# Altium footprint library LT3120JV&hash_PBF.PcbLib: 3 footprints
Each footprint in its own frame and in the unit in brackets; x right, y up, seen from the top. Pads: shape width x height; smd on the part's side, far side on the other; paste and mask are expansions set on the pad; w line width, h text height; cw(c..) or ccw(c..) is an arc to the next point about the centre after c.
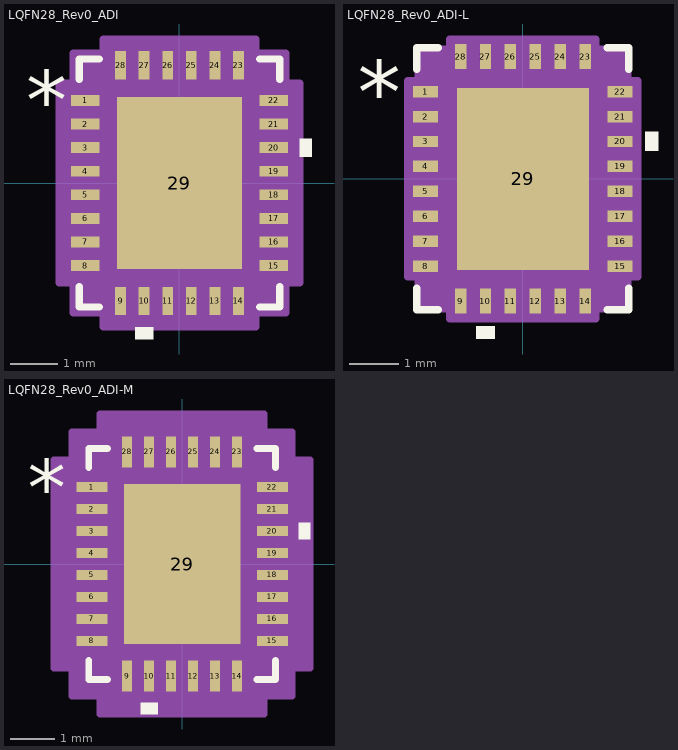
[diagram p0: the footprints below, top view; thin cyan lines are the x and y axes]

## LQFN28_Rev0_ADI [mm]
pads (29):
  rect 0.6x0.23 smd paste+0 mask+0: 1(-2,1.75) 2(-2,1.25) 3(-2,0.75) 4(-2,0.25) 5(-2,-0.25) 6(-2,-0.75) 7(-2,-1.25) 8(-2,-1.75) 15(2,-1.75) 16(2,-1.25) 17(2,-0.75) 18(2,-0.25) 19(2,0.25) 20(2,0.75) 21(2,1.25) 22(2,1.75)
  rect 0.23x0.6 smd paste+0 mask+0: 9(-1.25,-2.5) 10(-0.75,-2.5) 11(-0.25,-2.5) 12(0.25,-2.5) 13(0.75,-2.5) 14(1.25,-2.5) 23(1.25,2.5) 24(0.75,2.5) 25(0.25,2.5) 26(-0.25,2.5) 27(-0.75,2.5) 28(-1.25,2.5)
  rect 2.65x3.65 smd paste+0 mask+0: 29(0,0)
Top Overlay:
  region: -0.56,-3.054 -0.941,-3.054 -0.941,-3.308 -0.56,-3.308
  region: 2.554,0.941 2.808,0.941 2.808,0.56 2.554,0.56
  lines w0.152: -2.127,-2.198 -2.127,-2.627 -1.698,-2.627 ; -2.127,2.198 -2.127,2.627 -1.698,2.627 ; 1.698,-2.627 2.127,-2.627 2.127,-2.198 ; 1.698,2.627 2.127,2.627 2.127,2.198
  text "*" at -3.253,1.115 h1.27
Mechanical 13:
  lines w0.025: -2,1.23 -0.73,2.5 ; -2,-1.89 -2,-1.61 ; -2,-1.89 -2,-1.61 ; -2,-1.89 -2,-1.89 ; -2,-1.61 -2,-1.61 ; -2,-1.39 -2,-1.11 ; -2,-1.39 -2,-1.11 ; -2,-1.39 -2,-1.39 ; -2,-1.11 -2,-1.11 ; -2,-0.89 -2,-0.61 ; -2,-0.89 -2,-0.61 ; -2,-0.89 -2,-0.89 ; -2,-0.61 -2,-0.61 ; -2,-0.39 -2,-0.11 ; -2,-0.39 -2,-0.11 ; -2,-0.39 -2,-0.39 ; -2,-0.11 -2,-0.11 ; -2,0.11 -2,0.39 ; -2,0.11 -2,0.39 ; -2,0.11 -2,0.11 ; -2,0.39 -2,0.39 ; -2,0.61 -2,0.89 ; -2,0.61 -2,0.89 ; -2,0.61 -2,0.61 ; -2,0.89 -2,0.89 ; -2,1.11 -2,1.39 ; -2,1.11 -2,1.39 ; -2,1.11 -2,1.11 ; -2,1.39 -2,1.39 ; -2,1.61 -2,1.89 ; -2,1.61 -2,1.89 ; -2,1.61 -2,1.61 ; -2,1.89 -2,1.89 ; -1.39,-2.5 -1.11,-2.5 ; -1.39,-2.5 -1.39,-2.5 ; -1.39,-2.5 -1.11,-2.5 ; -1.39,2.5 -1.11,2.5 ; -1.39,2.5 -1.11,2.5 ; -1.39,2.5 -1.39,2.5 ; -1.11,-2.5 -1.11,-2.5 ; -1.11,2.5 -1.11,2.5 ; -0.89,-2.5 -0.61,-2.5 ; -0.89,-2.5 -0.89,-2.5 ; -0.89,-2.5 -0.61,-2.5 ; -0.89,2.5 -0.61,2.5 ; -0.89,2.5 -0.61,2.5 ; -0.89,2.5 -0.89,2.5 ; -0.61,-2.5 -0.61,-2.5 ; -0.61,2.5 -0.61,2.5 ; -0.39,-2.5 -0.11,-2.5 ; -0.39,-2.5 -0.39,-2.5 ; -0.39,-2.5 -0.11,-2.5 ; -0.39,2.5 -0.11,2.5 ; -0.39,2.5 -0.11,2.5 ; -0.39,2.5 -0.39,2.5 ; -0.11,-2.5 -0.11,-2.5 ; -0.11,2.5 -0.11,2.5 ; 0.11,-2.5 0.39,-2.5 ; 0.11,-2.5 0.11,-2.5 ; 0.11,-2.5 0.39,-2.5 ; 0.11,2.5 0.39,2.5 ; 0.11,2.5 0.39,2.5 ; 0.11,2.5 0.11,2.5 ; 0.39,-2.5 0.39,-2.5 ; 0.39,2.5 0.39,2.5 ; 0.61,-2.5 0.89,-2.5 ; 0.61,-2.5 0.61,-2.5 ; 0.61,-2.5 0.89,-2.5 ; 0.61,2.5 0.89,2.5 ; 0.61,2.5 0.89,2.5 ; 0.61,2.5 0.61,2.5 ; 0.89,-2.5 0.89,-2.5 ; 0.89,2.5 0.89,2.5 ; 1.11,-2.5 1.39,-2.5 ; 1.11,-2.5 1.11,-2.5 ; 1.11,-2.5 1.39,-2.5 ; 1.11,2.5 1.39,2.5 ; 1.11,2.5 1.39,2.5 ; 1.11,2.5 1.11,2.5 ; 1.39,-2.5 1.39,-2.5 ; 1.39,2.5 1.39,2.5 ; 2,-1.89 2,-1.61 ; 2,-1.89 2,-1.89 ; 2,-1.89 2,-1.61 ; 2,-1.61 2,-1.61 ; 2,-1.39 2,-1.11 ; 2,-1.39 2,-1.39 ; 2,-1.39 2,-1.11 ; 2,-1.11 2,-1.11 ; 2,-0.89 2,-0.61 ; 2,-0.89 2,-0.89 ; 2,-0.89 2,-0.61 ; 2,-0.61 2,-0.61 ; 2,-0.39 2,-0.11 ; 2,-0.39 2,-0.39 ; 2,-0.39 2,-0.11 ; 2,-0.11 2,-0.11 ; 2,0.11 2,0.39 ; 2,0.11 2,0.11 ; 2,0.11 2,0.39 ; 2,0.39 2,0.39 ; 2,0.61 2,0.89 ; 2,0.61 2,0.61 ; 2,0.61 2,0.89 ; 2,0.89 2,0.89 ; 2,1.11 2,1.39 ; 2,1.11 2,1.11 ; 2,1.11 2,1.39 ; 2,1.39 2,1.39 ; 2,1.61 2,1.89 ; 2,1.61 2,1.61 ; 2,1.61 2,1.89 ; 2,1.89 2,1.89 ; -2,-2.5 2,-2.5 2,2.5 -2,2.5 -2,-2.5
  text "*" at -1.382,1.115 h1.27
Mechanical 15:
  region: -1.619,-2.754 -2.254,-2.754 -2.254,-2.119 -2.554,-2.119 -2.554,2.119 -2.254,2.119 -2.254,2.754 -1.619,2.754 -1.619,3.054 1.619,3.054 1.619,2.754 2.254,2.754 2.254,2.119 2.554,2.119 2.554,-2.119 2.254,-2.119 2.254,-2.754 1.619,-2.754 1.619,-3.054 -1.619,-3.054
  lines w0.152: -2.554,-2.119 -2.254,-2.119 -2.254,-2.754 -1.619,-2.754 -1.619,-3.054 1.619,-3.054 1.619,-2.754 2.254,-2.754 2.254,-2.119 2.554,-2.119 2.554,2.119 2.254,2.119 2.254,2.754 1.619,2.754 1.619,3.054 -1.619,3.054 -1.619,2.754 -2.254,2.754 -2.254,2.119 -2.554,2.119 -2.554,-2.119
3D body "LQFN28_Rev0_ADI.step": height 0.83, standoff 0, extent -2,-2.5 2,2.5

## LQFN28_Rev0_ADI-L [mm]
pads (29):
  rect 0.503x0.229 smd paste+0 mask+0: 1(-1.952,1.75) 2(-1.952,1.25) 3(-1.952,0.75) 4(-1.952,0.25) 5(-1.952,-0.25) 6(-1.952,-0.75) 7(-1.952,-1.25) 8(-1.952,-1.75) 15(1.952,-1.75) 16(1.952,-1.25) 17(1.952,-0.75) 18(1.952,-0.25) 19(1.952,0.25) 20(1.952,0.75) 21(1.952,1.25) 22(1.952,1.75)
  rect 0.229x0.503 smd paste+0 mask+0: 9(-1.25,-2.452) 10(-0.75,-2.452) 11(-0.25,-2.452) 12(0.25,-2.452) 13(0.75,-2.452) 14(1.25,-2.452) 23(1.25,2.452) 24(0.75,2.452) 25(0.25,2.452) 26(-0.25,2.452) 27(-0.75,2.452) 28(-1.25,2.452)
  rect 2.65x3.65 smd paste+0 mask+0: 29(0,0)
Top Overlay:
  region: -0.56,-2.957 -0.941,-2.957 -0.941,-3.211 -0.56,-3.211
  region: 2.457,0.941 2.711,0.941 2.711,0.56 2.457,0.56
  lines w0.152: -2.127,-2.197 -2.127,-2.627 -1.697,-2.627 ; -2.127,2.197 -2.127,2.627 -1.697,2.627 ; 1.697,-2.627 2.127,-2.627 2.127,-2.197 ; 1.697,2.627 2.127,2.627 2.127,2.197
  text "*" at -3.308,1.115 h1.27
Mechanical 13:
  lines w0.025: -2,1.23 -0.73,2.5 ; -2,-1.89 -2,-1.61 ; -2,-1.89 -2,-1.61 ; -2,-1.89 -2,-1.89 ; -2,-1.61 -2,-1.61 ; -2,-1.39 -2,-1.11 ; -2,-1.39 -2,-1.11 ; -2,-1.39 -2,-1.39 ; -2,-1.11 -2,-1.11 ; -2,-0.89 -2,-0.61 ; -2,-0.89 -2,-0.61 ; -2,-0.89 -2,-0.89 ; -2,-0.61 -2,-0.61 ; -2,-0.39 -2,-0.11 ; -2,-0.39 -2,-0.11 ; -2,-0.39 -2,-0.39 ; -2,-0.11 -2,-0.11 ; -2,0.11 -2,0.39 ; -2,0.11 -2,0.39 ; -2,0.11 -2,0.11 ; -2,0.39 -2,0.39 ; -2,0.61 -2,0.89 ; -2,0.61 -2,0.89 ; -2,0.61 -2,0.61 ; -2,0.89 -2,0.89 ; -2,1.11 -2,1.39 ; -2,1.11 -2,1.39 ; -2,1.11 -2,1.11 ; -2,1.39 -2,1.39 ; -2,1.61 -2,1.89 ; -2,1.61 -2,1.89 ; -2,1.61 -2,1.61 ; -2,1.89 -2,1.89 ; -1.39,-2.5 -1.11,-2.5 ; -1.39,-2.5 -1.39,-2.5 ; -1.39,-2.5 -1.11,-2.5 ; -1.39,2.5 -1.11,2.5 ; -1.39,2.5 -1.11,2.5 ; -1.39,2.5 -1.39,2.5 ; -1.11,-2.5 -1.11,-2.5 ; -1.11,2.5 -1.11,2.5 ; -0.89,-2.5 -0.61,-2.5 ; -0.89,-2.5 -0.89,-2.5 ; -0.89,-2.5 -0.61,-2.5 ; -0.89,2.5 -0.61,2.5 ; -0.89,2.5 -0.61,2.5 ; -0.89,2.5 -0.89,2.5 ; -0.61,-2.5 -0.61,-2.5 ; -0.61,2.5 -0.61,2.5 ; -0.39,-2.5 -0.11,-2.5 ; -0.39,-2.5 -0.39,-2.5 ; -0.39,-2.5 -0.11,-2.5 ; -0.39,2.5 -0.11,2.5 ; -0.39,2.5 -0.11,2.5 ; -0.39,2.5 -0.39,2.5 ; -0.11,-2.5 -0.11,-2.5 ; -0.11,2.5 -0.11,2.5 ; 0.11,-2.5 0.39,-2.5 ; 0.11,-2.5 0.11,-2.5 ; 0.11,-2.5 0.39,-2.5 ; 0.11,2.5 0.39,2.5 ; 0.11,2.5 0.39,2.5 ; 0.11,2.5 0.11,2.5 ; 0.39,-2.5 0.39,-2.5 ; 0.39,2.5 0.39,2.5 ; 0.61,-2.5 0.89,-2.5 ; 0.61,-2.5 0.61,-2.5 ; 0.61,-2.5 0.89,-2.5 ; 0.61,2.5 0.89,2.5 ; 0.61,2.5 0.89,2.5 ; 0.61,2.5 0.61,2.5 ; 0.89,-2.5 0.89,-2.5 ; 0.89,2.5 0.89,2.5 ; 1.11,-2.5 1.39,-2.5 ; 1.11,-2.5 1.11,-2.5 ; 1.11,-2.5 1.39,-2.5 ; 1.11,2.5 1.39,2.5 ; 1.11,2.5 1.39,2.5 ; 1.11,2.5 1.11,2.5 ; 1.39,-2.5 1.39,-2.5 ; 1.39,2.5 1.39,2.5 ; 2,-1.89 2,-1.61 ; 2,-1.89 2,-1.89 ; 2,-1.89 2,-1.61 ; 2,-1.61 2,-1.61 ; 2,-1.39 2,-1.11 ; 2,-1.39 2,-1.39 ; 2,-1.39 2,-1.11 ; 2,-1.11 2,-1.11 ; 2,-0.89 2,-0.61 ; 2,-0.89 2,-0.89 ; 2,-0.89 2,-0.61 ; 2,-0.61 2,-0.61 ; 2,-0.39 2,-0.11 ; 2,-0.39 2,-0.39 ; 2,-0.39 2,-0.11 ; 2,-0.11 2,-0.11 ; 2,0.11 2,0.39 ; 2,0.11 2,0.11 ; 2,0.11 2,0.39 ; 2,0.39 2,0.39 ; 2,0.61 2,0.89 ; 2,0.61 2,0.61 ; 2,0.61 2,0.89 ; 2,0.89 2,0.89 ; 2,1.11 2,1.39 ; 2,1.11 2,1.11 ; 2,1.11 2,1.39 ; 2,1.39 2,1.39 ; 2,1.61 2,1.89 ; 2,1.61 2,1.61 ; 2,1.61 2,1.89 ; 2,1.89 2,1.89 ; -2,-2.5 2,-2.5 2,2.5 -2,2.5 -2,-2.5
  text "*" at -1.23,1.115 h1.27
Mechanical 15:
  region: -1.466,-2.602 -2.102,-2.602 -2.102,-1.966 -2.305,-1.966 -2.305,1.966 -2.102,1.966 -2.102,2.602 -1.466,2.602 -1.466,2.805 1.466,2.805 1.466,2.602 2.102,2.602 2.102,1.966 2.305,1.966 2.305,-1.966 2.102,-1.966 2.102,-2.602 1.466,-2.602 1.466,-2.805 -1.466,-2.805
  lines w0.152: -2.305,-1.966 -2.102,-1.966 -2.102,-2.602 -1.466,-2.602 -1.466,-2.805 1.466,-2.805 1.466,-2.602 2.102,-2.602 2.102,-1.966 2.305,-1.966 2.305,1.966 2.102,1.966 2.102,2.602 1.466,2.602 1.466,2.805 -1.466,2.805 -1.466,2.602 -2.102,2.602 -2.102,1.966 -2.305,1.966 -2.305,-1.966
3D body "LQFN28_Rev0_ADI.step": height 0.83, standoff 0, extent -2,-2.5 2,2.5

## LQFN28_Rev0_ADI-M [mm]
pads (29):
  rect 0.706x0.229 smd paste+0 mask+0: 1(-2.053,1.75) 2(-2.053,1.25) 3(-2.053,0.75) 4(-2.053,0.25) 5(-2.053,-0.25) 6(-2.053,-0.75) 7(-2.053,-1.25) 8(-2.053,-1.75) 15(2.053,-1.75) 16(2.053,-1.25) 17(2.053,-0.75) 18(2.053,-0.25) 19(2.053,0.25) 20(2.053,0.75) 21(2.053,1.25) 22(2.053,1.75)
  rect 0.229x0.706 smd paste+0 mask+0: 9(-1.25,-2.553) 10(-0.75,-2.553) 11(-0.25,-2.553) 12(0.25,-2.553) 13(0.75,-2.553) 14(1.25,-2.553) 23(1.25,2.553) 24(0.75,2.553) 25(0.25,2.553) 26(-0.25,2.553) 27(-0.75,2.553) 28(-1.25,2.553)
  rect 2.65x3.65 smd paste+0 mask+0: 29(0,0)
Top Overlay:
  region: -0.56,-3.16 -0.941,-3.16 -0.941,-3.414 -0.56,-3.414
  region: 2.66,0.941 2.914,0.941 2.914,0.56 2.66,0.56
  lines w0.152: -2.127,-2.197 -2.127,-2.627 -1.697,-2.627 ; -2.127,2.197 -2.127,2.627 -1.697,2.627 ; 1.697,-2.627 2.127,-2.627 2.127,-2.197 ; 1.697,2.627 2.127,2.627 2.127,2.197
  text "*" at -3.511,1.115 h1.27
Mechanical 13:
  lines w0.025: -2,1.23 -0.73,2.5 ; -2,-1.89 -2,-1.61 ; -2,-1.89 -2,-1.61 ; -2,-1.89 -2,-1.89 ; -2,-1.61 -2,-1.61 ; -2,-1.39 -2,-1.11 ; -2,-1.39 -2,-1.11 ; -2,-1.39 -2,-1.39 ; -2,-1.11 -2,-1.11 ; -2,-0.89 -2,-0.61 ; -2,-0.89 -2,-0.61 ; -2,-0.89 -2,-0.89 ; -2,-0.61 -2,-0.61 ; -2,-0.39 -2,-0.11 ; -2,-0.39 -2,-0.11 ; -2,-0.39 -2,-0.39 ; -2,-0.11 -2,-0.11 ; -2,0.11 -2,0.39 ; -2,0.11 -2,0.39 ; -2,0.11 -2,0.11 ; -2,0.39 -2,0.39 ; -2,0.61 -2,0.89 ; -2,0.61 -2,0.89 ; -2,0.61 -2,0.61 ; -2,0.89 -2,0.89 ; -2,1.11 -2,1.39 ; -2,1.11 -2,1.39 ; -2,1.11 -2,1.11 ; -2,1.39 -2,1.39 ; -2,1.61 -2,1.89 ; -2,1.61 -2,1.89 ; -2,1.61 -2,1.61 ; -2,1.89 -2,1.89 ; -1.39,-2.5 -1.11,-2.5 ; -1.39,-2.5 -1.39,-2.5 ; -1.39,-2.5 -1.11,-2.5 ; -1.39,2.5 -1.11,2.5 ; -1.39,2.5 -1.11,2.5 ; -1.39,2.5 -1.39,2.5 ; -1.11,-2.5 -1.11,-2.5 ; -1.11,2.5 -1.11,2.5 ; -0.89,-2.5 -0.61,-2.5 ; -0.89,-2.5 -0.89,-2.5 ; -0.89,-2.5 -0.61,-2.5 ; -0.89,2.5 -0.61,2.5 ; -0.89,2.5 -0.61,2.5 ; -0.89,2.5 -0.89,2.5 ; -0.61,-2.5 -0.61,-2.5 ; -0.61,2.5 -0.61,2.5 ; -0.39,-2.5 -0.11,-2.5 ; -0.39,-2.5 -0.39,-2.5 ; -0.39,-2.5 -0.11,-2.5 ; -0.39,2.5 -0.11,2.5 ; -0.39,2.5 -0.11,2.5 ; -0.39,2.5 -0.39,2.5 ; -0.11,-2.5 -0.11,-2.5 ; -0.11,2.5 -0.11,2.5 ; 0.11,-2.5 0.39,-2.5 ; 0.11,-2.5 0.11,-2.5 ; 0.11,-2.5 0.39,-2.5 ; 0.11,2.5 0.39,2.5 ; 0.11,2.5 0.39,2.5 ; 0.11,2.5 0.11,2.5 ; 0.39,-2.5 0.39,-2.5 ; 0.39,2.5 0.39,2.5 ; 0.61,-2.5 0.89,-2.5 ; 0.61,-2.5 0.61,-2.5 ; 0.61,-2.5 0.89,-2.5 ; 0.61,2.5 0.89,2.5 ; 0.61,2.5 0.89,2.5 ; 0.61,2.5 0.61,2.5 ; 0.89,-2.5 0.89,-2.5 ; 0.89,2.5 0.89,2.5 ; 1.11,-2.5 1.39,-2.5 ; 1.11,-2.5 1.11,-2.5 ; 1.11,-2.5 1.39,-2.5 ; 1.11,2.5 1.39,2.5 ; 1.11,2.5 1.39,2.5 ; 1.11,2.5 1.11,2.5 ; 1.39,-2.5 1.39,-2.5 ; 1.39,2.5 1.39,2.5 ; 2,-1.89 2,-1.61 ; 2,-1.89 2,-1.89 ; 2,-1.89 2,-1.61 ; 2,-1.61 2,-1.61 ; 2,-1.39 2,-1.11 ; 2,-1.39 2,-1.39 ; 2,-1.39 2,-1.11 ; 2,-1.11 2,-1.11 ; 2,-0.89 2,-0.61 ; 2,-0.89 2,-0.89 ; 2,-0.89 2,-0.61 ; 2,-0.61 2,-0.61 ; 2,-0.39 2,-0.11 ; 2,-0.39 2,-0.39 ; 2,-0.39 2,-0.11 ; 2,-0.11 2,-0.11 ; 2,0.11 2,0.39 ; 2,0.11 2,0.11 ; 2,0.11 2,0.39 ; 2,0.39 2,0.39 ; 2,0.61 2,0.89 ; 2,0.61 2,0.61 ; 2,0.61 2,0.89 ; 2,0.89 2,0.89 ; 2,1.11 2,1.39 ; 2,1.11 2,1.11 ; 2,1.11 2,1.39 ; 2,1.39 2,1.39 ; 2,1.61 2,1.89 ; 2,1.61 2,1.61 ; 2,1.61 2,1.89 ; 2,1.89 2,1.89 ; -2,-2.5 2,-2.5 2,2.5 -2,2.5 -2,-2.5
  text "*" at -1.23,1.115 h1.27
Mechanical 15:
  region: -1.873,-3.008 -2.508,-3.008 -2.508,-2.373 -2.914,-2.373 -2.914,2.373 -2.508,2.373 -2.508,3.008 -1.873,3.008 -1.873,3.414 1.873,3.414 1.873,3.008 2.508,3.008 2.508,2.373 2.914,2.373 2.914,-2.373 2.508,-2.373 2.508,-3.008 1.873,-3.008 1.873,-3.414 -1.873,-3.414
  lines w0.152: -2.914,-2.373 -2.508,-2.373 -2.508,-3.008 -1.873,-3.008 -1.873,-3.414 1.873,-3.414 1.873,-3.008 2.508,-3.008 2.508,-2.373 2.914,-2.373 2.914,2.373 2.508,2.373 2.508,3.008 1.873,3.008 1.873,3.414 -1.873,3.414 -1.873,3.008 -2.508,3.008 -2.508,2.373 -2.914,2.373 -2.914,-2.373
3D body "LQFN28_Rev0_ADI.step": height 0.83, standoff 0, extent -2,-2.5 2,2.5